# Altium footprint library SMB_TVS_Diode.PcbLib: 1 footprints
Each footprint in its own frame and in the unit in brackets; x right, y up, seen from the top. Pads: shape width x height; smd on the part's side, far side on the other; paste and mask are expansions set on the pad; w line width, h text height; cw(c..) or ccw(c..) is an arc to the next point about the centre after c.
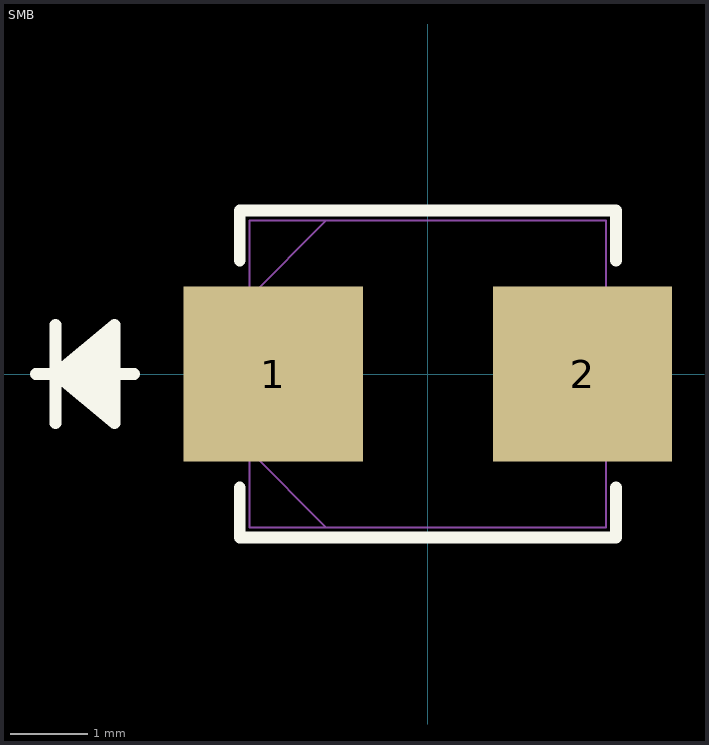
[diagram p0: the footprint, top view; thin cyan lines are the x and y axes]

## SMB [mil]
pads (2):
  rect 91x89 smd: 1(-78.5,0) 2(78.5,0)
Top Overlay:
  lines w6: -199,0 -149,0 ; -189,-25 -189,25 ; -159,-20 -189,0 ; -159,-15 -189,0 ; -159,-10 -189,0 ; -159,-5 -189,0 ; -159,5 -189,0 ; -159,10 -189,0 ; -159,15 -189,0 ; -159,20 -189,0 ; -95.5,-57.6 -95.5,-83 95.5,-83 95.5,-57.6 ; -95.5,57.6 -95.5,83 95.5,83 95.5,57.6 ; -189,0 -159,-25 -159,25 -189,0
Mechanical 1:
  lines w1: -199,0 -149,0 ; -189,-25 -189,25 ; -159,-20 -189,0 ; -159,-15 -189,0 ; -159,-10 -189,0 ; -159,-5 -189,0 ; -159,5 -189,0 ; -159,10 -189,0 ; -159,15 -189,0 ; -159,20 -189,0 ; -90.5,-39 -51.5,-78 ; -90.5,39 -51.5,78 ; -189,0 -159,-25 -159,25 -189,0 ; -110,-43.5 -90.5,-43.5 -90.5,43.5 -110,43.5 -110,-43.5 ; -90.5,-78 -90.5,78 90.5,78 90.5,-78 -90.5,-78 ; 90.5,-43.5 110,-43.5 110,43.5 90.5,43.5 90.5,-43.5